# Altium footprint library cw32无刷驱动.PcbLib: 33 footprints (part 3 of 3)
Each footprint in its own frame and in the unit in brackets; x right, y up, seen from the top. Pads: shape width x height; smd on the part's side, far side on the other; paste and mask are expansions set on the pad; w line width, h text height; cw(c..) or ccw(c..) is an arc to the next point about the centre after c.
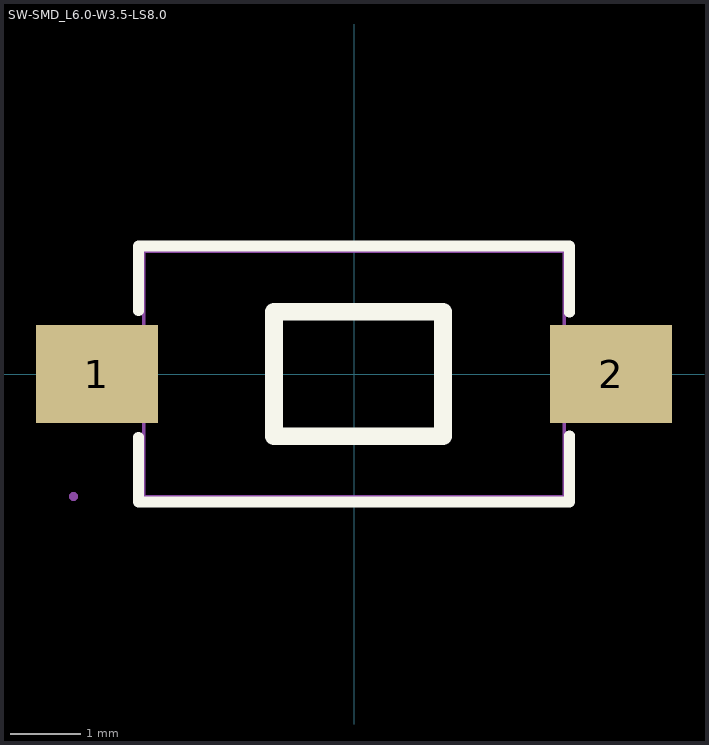
[diagram p2: the footprint, top view; thin cyan lines are the x and y axes]

## SW-SMD_L6.0-W3.5-LS8.0 [mil]
pads (2):
  rect 68.5x55.1 smd mask+2: 1(-144.5,0) 2(144.5,0)
Top Overlay:
  lines w6: -121.1,-35.6 -121.1,-71.9 121.1,-71.9 121.1,-34.7 ; -121.1,35.6 -121.1,71.9 121.1,71.9 121.1,34.7
  lines w10: -45,-35 -45,35 50,35 50,-35 -45,-35
Mechanical 15:
  region: -159.9,-68.9 -159.9,-69.89 -158.49,-71.3 -156.51,-71.3 -155.1,-69.89 -155.1,-68.9 -155.1,-67.91 -156.51,-66.5 -158.49,-66.5 -159.9,-67.91 -159.9,-68.9
  region: 157.5,19.7 157.5,-19.7 122,-19.7 122,19.7
  region: 117.7,19.7 117.7,-19.7 122.4,-19.7 122.4,19.7
  region: -157.5,19.7 -157.5,-19.7 -122,-19.7 -122,19.7
  region: -117.7,19.7 -117.7,-19.7 -122.4,-19.7 -122.4,19.7
  lines w2: -118.1,-68.9 118.1,-68.9 118.1,68.9 -118.1,68.9 -118.1,-68.9